# Altium schematic symbol library QUTMS_SteeringWheel.SchLib: 1 symbol
Pins are listed as number, name and electrical type; pins without a type are passive.

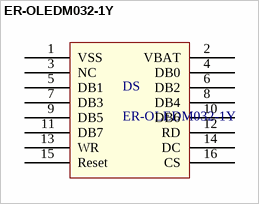
[diagram p0: symbol ER-OLEDM032-1Y]

## ER-OLEDM032-1Y
designator DS
SPI 3.2 inch OLED Module Display 256x64 Panel Screen,Yellow on Black; ComponentLink1Description: BuyDisplay; ComponentLink1URL: https://www.buydisplay.com/default/spi-3-2-inch-oled-module-display-256x64-panel-screen-yellow-on-black
footprint ER-OLEDM032-1Y (SPI 3.2 inch OLED Module Display 256x64 Panel Screen,Yellow on Black)
footprint OLED Header
pins: 1 VSS, 2 VBAT, 3 NC, 4 DB0, 5 DB1, 6 DB2, 7 DB3, 8 DB4, 9 DB5, 10 DB6, 11 DB7, 12 RD, 13 WR, 14 DC, 15 Reset, 16 CS